# Altium footprint library Transistores.PcbLib: 28 footprints (part 2 of 2)
Each footprint in its own frame and in the unit in brackets; x right, y up, seen from the top. Pads: shape width x height; smd on the part's side, far side on the other; paste and mask are expansions set on the pad; w line width, h text height; cw(c..) or ccw(c..) is an arc to the next point about the centre after c.
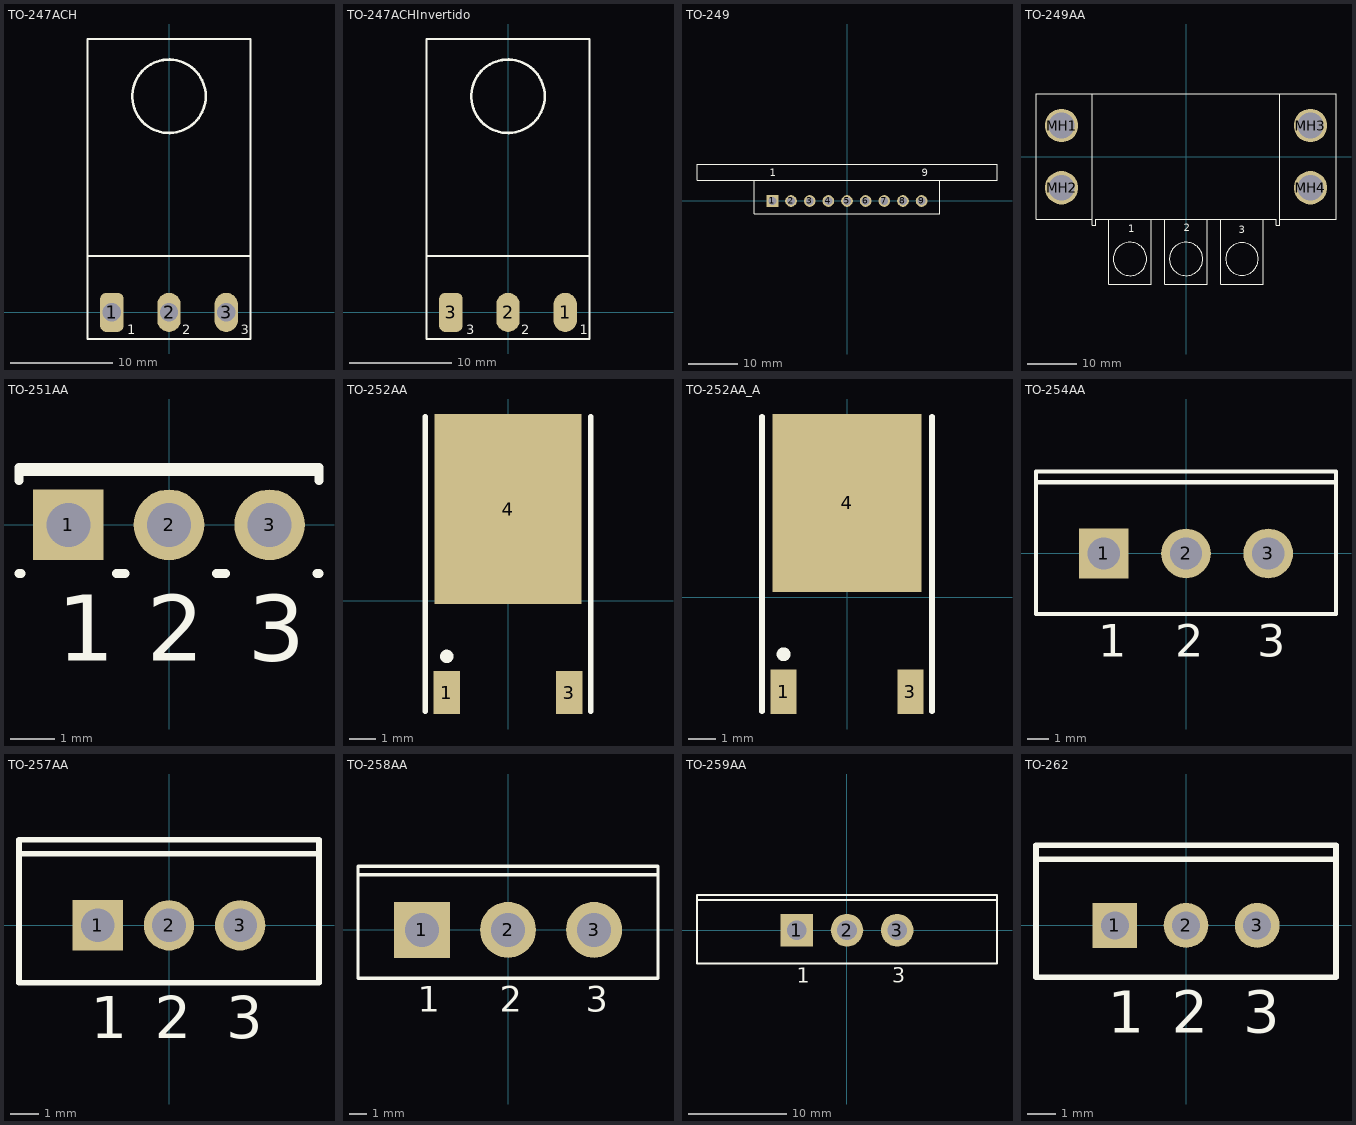
[diagram p1: the footprints below, top view; thin cyan lines are the x and y axes]

## TO-247ACH [mil]
height 968.5
pads (3):
  rrect50% 90x150 hole 70: 1(-219.57,0)
  oval 90x150 hole 70: 2(0,0) 3(219.57,0)
Top Overlay:
  circle w10: c0,830 r141.16
  lines w7.87: -312.99,216.61 312.99,216.61 ; -312.99,-102.36 312.99,-102.36 312.99,1050 -312.99,1050 -312.99,-102.36
  text "1" at -160,-85 h36
  text "2" at 50,-85 h36
  text "3" at 275,-85 h36
3D body "TO-247_bent_leads.step": height 232.28, standoff -240.16, extent -313,-15 312.99,1047.28

## TO-247ACHInvertido [mil]
height 968.5
pads (3):
  oval 90x150 smd: 1(219.57,0) 2(0,0)
  rrect50% 90x150 smd: 3(-219.57,0)
Top Overlay:
  circle w10: c0,830 r141.16
  lines w7.87: -312.99,216.61 312.99,216.61 ; -312.99,-102.36 -312.99,1050 312.99,1050 312.99,-102.36 -312.99,-102.36
  text "1" at 275,-85 h36
  text "2" at 50,-85 h36
  text "3" at -160,-85 h36
3D body "User Library-TO-247AC.STEP": height 208.66, standoff 0, extent -312.05,-33.31 310,1053.31

## TO-249 [mm] "Rectangular Flange Mount, Thru-Hole; 9 Leads; Pitch 3.81 mm"
height 25.7
pads (9):
  rect 2.4x2.4 hole 1.6: 1(-15.24,0)
  round 2.4 hole 1.6: 2(-11.43,0) 3(-7.62,0) 4(-3.81,0) 5(0,0) 6(3.81,0) 7(7.62,0) 8(11.43,0) 9(15.24,0)
Top Overlay:
  lines w0.2: -18.95,4.25 -18.95,-2.65 18.95,-2.65 18.95,4.25 ; -30.65,4.25 30.65,4.25 30.65,7.55 -30.65,7.55 -30.65,4.25
  text "9" at 15.24,5.08 h1.5
  text "1" at -15.748,5.08 h1.5

## TO-249AA [mm] "Rectangular Flange Mount/TO-249-AA; 3 Terminals; Body 61.21 x 25.65 x 10.16 mm  (LxWxH max)"
height 10.16
pads (4):
  round 6.8 hole 5.3: MH1(-25.4,6.35) MH2(-25.4,-6.35) MH3(25.4,6.35) MH4(25.4,-6.35)
Top Overlay:
  circle w0.2: c-11.43,-20.877 r3.4
  circle w0.2: c0,-20.877 r3.4
  circle w0.2: c11.43,-20.877 r3.318
  lines w0.2: -19.177,12.827 -19.177,-12.827 ; -15.75,-12.827 -15.75,-26.037 -7.11,-26.037 -7.11,-12.827 ; -4.32,-12.827 -4.32,-26.037 4.32,-26.037 4.32,-12.827 ; 7.11,-12.827 7.11,-26.037 15.75,-26.037 15.75,-12.827 ; 19.177,12.827 19.177,-12.827 ; -19.177,-12.827 -30.607,-12.827 -30.607,12.827 30.607,12.827 30.607,-12.827 19.177,-12.827 ; -19.177,-12.827 -19.177,-13.967 -18.427,-13.967 -18.427,-12.827 18.427,-12.827 18.427,-13.967 19.177,-13.967 19.177,-12.827
  text "1" at -11.794,-15.431 h1.5
  text "2" at -0.497,-15.276 h1.5
  text "3" at 10.799,-15.586 h1.5

## TO-251AA [mm] "TO, Thru-Hole, Vertical, Heatsink Mounted; 3 In-Line Leads; Pitch 2.28 mm"
height 9.7
pads (3):
  rect 1.6x1.6 hole 1: 1(-2.28,0)
  round 1.6 hole 1: 2(0,0) 3(2.28,0)
Top Overlay:
  lines w0.2: -3.4,-1.1 -3.35,-1.1 ; -3.4,1 -3.4,1.3 3.4,1.3 3.4,1 ; -3.4,1.21 3.4,1.21 ; -1.19,-1.1 -0.99,-1.1 ; 1.08,-1.1 1.28,-1.1 ; 3.35,-1.1 3.4,-1.1
  text "1" at -2.53,-3.075 h1.5
  text "2" at -0.5,-3.075 h1.5
  text "3" at 1.78,-3.075 h1.5

## TO-252AA [mm] "D-PAK/TO-252-AA; 3 Leads (1 Cropped); Body 10.4 (inc. leads) x 6.7 mm (LxW max)"
height 2.38
pads (3):
  rect 1x1.6 smd: 1(-2.285,-3.425) 3(2.285,-3.425)
  rect 5.5x7.1 smd: 4(0,3.425)
Top Overlay:
  circle w0.25: c-2.285,-2.075 r0.125
  lines w0.2: -3.085,-4.125 -3.085,6.875 ; 3.085,-4.125 3.085,6.875

## TO-252AA_A [mm] "D-PAK/TO-252-AA; 3 Leads (1 Cropped); Body 10.2 (inc. leads) x 6.7 mm (LxW max)"
height 2.38
pads (3):
  rect 0.95x1.6 smd: 1(-2.285,-3.4) 3(2.285,-3.4)
  rect 5.35x6.4 smd: 4(0,3.4)
Top Overlay:
  circle w0.25: c-2.285,-2.05 r0.125
  lines w0.2: -3.06,-4.1 -3.06,6.5 ; 3.06,-4.1 3.06,6.5

## TO-254AA [mm] "TO, Thru-Hole, Vertical, Heatsink Mounted; 3 In-Line Leads; Pitch 3.81 mm"
height 20.3
pads (3):
  rect 2.3x2.3 hole 1.5: 1(-3.81,0)
  round 2.3 hole 1.5: 2(0,0) 3(3.81,0)
Top Overlay:
  lines w0.2: -6.95,3.3 6.95,3.3 ; -6.95,-2.8 6.95,-2.8 6.95,3.8 -6.95,3.8 -6.95,-2.8
  text "1" at -4.06,-4.775 h1.5
  text "2" at -0.5,-4.775 h1.5
  text "3" at 3.31,-4.775 h1.5

## TO-257AA [mm] "TO, Thru-Hole, Vertical, Heatsink Mounted; 3 In-Line Leads; Pitch 2.54 mm"
height 17.8
pads (3):
  rect 1.8x1.8 hole 1.2: 1(-2.54,0)
  round 1.8 hole 1.2: 2(0,0) 3(2.54,0)
Top Overlay:
  lines w0.2: -5.35,2.55 5.35,2.55 ; -5.35,-2.05 5.35,-2.05 5.35,3.05 -5.35,3.05 -5.35,-2.05
  text "3" at 2.04,-4.025 h1.5
  text "2" at -0.5,-4.025 h1.5
  text "1" at -2.79,-4.025 h1.5

## TO-258AA [mm] "TO, Thru-Hole, Vertical, Heatsink Mounted; 3 In-Line Leads; Pitch 5.08 mm"
height 21
pads (3):
  rect 3.3x3.3 hole 2: 1(-5.08,0)
  round 3.3 hole 2: 2(0,0) 3(5.08,0)
Top Overlay:
  lines w0.2: -8.85,3.25 8.85,3.25 ; -8.85,-2.85 8.85,-2.85 8.85,3.75 -8.85,3.75 -8.85,-2.85
  text "1" at -5.33,-4.825 h1.5
  text "2" at -0.5,-4.825 h1.5
  text "3" at 4.58,-4.825 h1.5

## TO-259AA [mm] "SIP; 3 Leads; Body 13.7 x 30.2 x 6.5 mm (typ); Pitch 5.08 mm"
height 14
pads (3):
  rect 3.3x3.3 hole 2: 1(-5.08,0)
  round 3.3 hole 2: 2(0,0) 3(5.08,0)
Top Overlay:
  lines w0.2: -15.2,3.05 15.2,3.05 ; -15.2,-3.35 15.2,-3.35 15.2,3.55 -15.2,3.55 -15.2,-3.35
  text "1" at -5.08,-5.33 h1.5
  text "3" at 4.572,-5.33 h1.5

## TO-262 [mm] "TO, Thru-Hole, Vertical, Heatsink Mounted; 3 In-Line Leads; Pitch 2.54 mm"
height 14.6
pads (3):
  rect 1.6x1.6 hole 1: 1(-2.54,0)
  round 1.6 hole 1: 2(0,0) 3(2.54,0)
Top Overlay:
  lines w0.2: -5.35,2.35 5.35,2.35 ; -5.35,-1.85 5.35,-1.85 5.35,2.85 -5.35,2.85 -5.35,-1.85
  text "2" at -0.5,-3.825 h1.5
  text "1" at -2.79,-3.825 h1.5
  text "3" at 2.04,-3.825 h1.5